# Altium integrated library LM317LDR2G.IntLib: 1 symbol
Pins are listed as number, name and electrical type; pins without a type are passive.

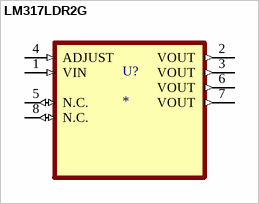
[diagram p0: symbol LM317LDR2G]

## LM317LDR2G
designator U?
Linear Voltage Regulator IC Positive Adjustable 1 Output 100mA 8-SOIC; MF: ON Semiconductor; MP: LM317LDR2G; SnapEDA_Link: https://www.snapeda.com/parts/LM317LDR2G/Onsemi/view-part/?ref=snap; Package: SOIC-8 ON Semiconductor; Value: *; Check_prices: https://www.snapeda.com/parts/LM317LDR2G/Onsemi/view-part/?ref=eda
footprint SOIC127P600X175-8N
pins: 1 VIN (in), 2 VOUT (out), 3 VOUT (out), 4 ADJUST (in), 5 N.C. (io), 6 VOUT (out), 7 VOUT (out), 8 N.C. (io)